# EAGLE library part BGA725L6E6327FTSA1 (library INF-TSLP-6-2_V)
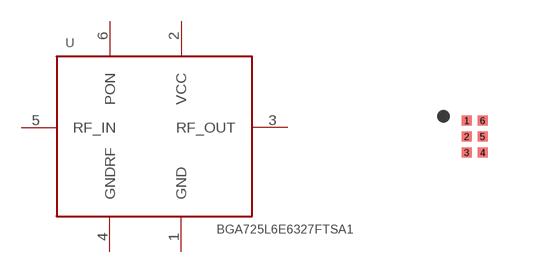
[diagram p0: symbol with the pads of INF-TSLP-6-2_V_1PRIMARY; footprint INF-TSLP-6-2_V_1PRIMARY]

Designator prefix U

## BGA725L6E6327FTSA1  [INF-TSLP-6-2_V_1PRIMARY]
1  GND
2  VCC
3  RF_OUT
4  GNDRF
5  RF_IN
6  PON

## Footprint INF-TSLP-6-2_V_1PRIMARY (pad centres in mm)
Original name INF-TSLP-6-2_V
smd 0.25 x 0.25: 1 -0.2,0.4; 2 -0.2,0; 3 -0.2,-0.4; 4 0.2,-0.4; 5 0.2,0; 6 0.2,0.4